# EAGLE library part ENC28J60-* (library ENC28j60)
Microchip 10Mbit Eth. contoller with SPI interface
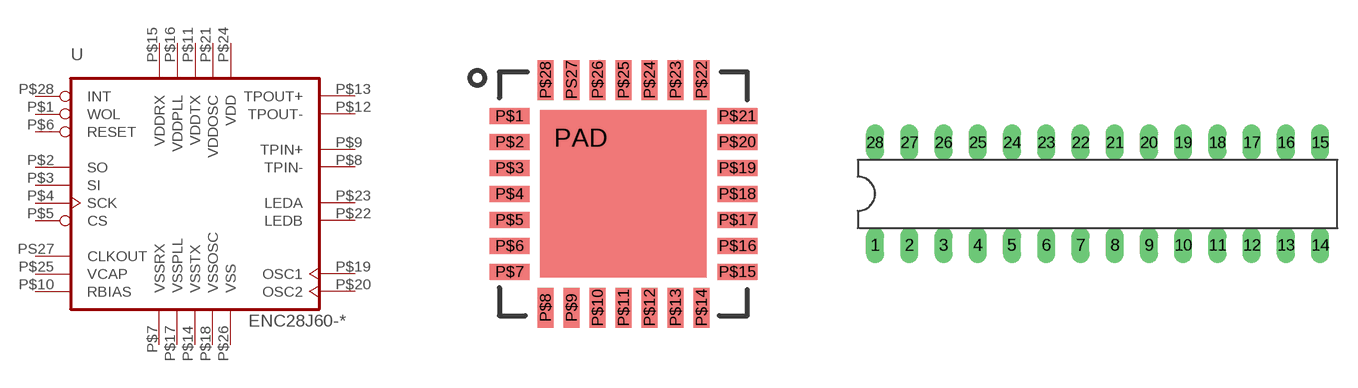
[diagram p0: symbol with the pads of QFN28_ENC; footprints QFN28_ENC, DIL28-3]

Designator prefix U

## ENC28J60-  [QFN28_ENC]
P$1  WOL  out
P$2  SO  out
P$3  SI  in
P$4  SCK  in
P$5  CS  in
P$6  RESET  in
P$7  VSSRX  pwr
P$8  TPIN-  in
P$9  TPIN+  in
P$10  RBIAS  pas
P$11  VDDTX  pwr
P$12  TPOUT-  out
P$13  TPOUT+  out
P$14  VSSTX  pwr
P$15  VDDRX  pwr
P$16  VDDPLL  pwr
P$17  VSSPLL  pwr
P$18  VSSOSC  pwr
P$19  OSC1  in
P$20  OSC2  out
P$21  VDDOSC  pwr
P$22  LEDB  out
P$23  LEDA  out
P$24  VDD  pwr
P$25  VCAP  pwr
P$26  VSS  pwr
P$28  INT  out
PS27  CLKOUT  out

## ENC28J60-DIL  [DIL28-3]
1  VCAP  pwr
2  VSS  pwr
3  CLKOUT  out
4  INT  out
5  WOL  out
6  SO  out
7  SI  in
8  SCK  in
9  CS  in
10  RESET  in
11  VSSRX  pwr
12  TPIN-  in
13  TPIN+  in
14  RBIAS  pas
15  VDDTX  pwr
16  TPOUT-  out
17  TPOUT+  out
18  VSSTX  pwr
19  VDDRX  pwr
20  VDDPLL  pwr
21  VSSPLL  pwr
22  VSSOSC  pwr
23  OSC1  in
24  OSC2  out
25  VDDOSC  pwr
26  LEDB  out
27  LEDA  out
28  VDD  pwr

## ENC28J60-SO  [SO28W]
Pads as for DIL28-3

## ENC28J60-SSOP  [SSOP28]
Pads as for DIL28-3

## Footprint QFN28_ENC (pad centres in mm)
smd 1 x 0.4: P$1 -2.892,1.91; P$2 -2.892,1.26; P$3 -2.892,0.61; P$4 -2.892,-0.04; P$5 -2.892,-0.69; P$6 -2.892,-1.34; P$7 -2.892,-1.99; P$15 2.808,-1.99; P$16 2.808,-1.34; P$17 2.808,-0.69; P$18 2.808,-0.04; P$19 2.808,0.61; P$20 2.808,1.26; P$21 2.808,1.91
smd 0.4 x 1: P$8 -1.992,-2.89; P$9 -1.342,-2.89; P$10 -0.692,-2.89; P$11 -0.042,-2.89; P$12 0.608,-2.89; P$13 1.258,-2.89; P$14 1.908,-2.89; P$22 1.908,2.81; P$23 1.258,2.81; P$24 0.608,2.81; P$25 -0.042,2.81; P$26 -0.692,2.81; P$28 -1.992,2.81; PS27 -1.342,2.81
smd 1.27 x 0.66: PAD -1.109,1.357

## Footprint DIL28-3 (pad centres in mm)
Dual In Line package type P
drill 0.813 long: 1 -16.51,-3.81; 2 -13.97,-3.81; 3 -11.43,-3.81; 4 -8.89,-3.81; 5 -6.35,-3.81; 6 -3.81,-3.81; 7 -1.27,-3.81; 8 1.27,-3.81; 9 3.81,-3.81; 10 6.35,-3.81; 11 8.89,-3.81; 12 11.43,-3.81; 13 13.97,-3.81; 14 16.51,-3.81; 15 16.51,3.81; 16 13.97,3.81; 17 11.43,3.81; 18 8.89,3.81; 19 6.35,3.81; 20 3.81,3.81; 21 1.27,3.81; 22 -1.27,3.81; 23 -3.81,3.81; 24 -6.35,3.81; 25 -8.89,3.81; 26 -11.43,3.81; 27 -13.97,3.81; 28 -16.51,3.81

## Footprint SO28W (pad centres in mm)
SMALL OUTLINE INTEGRATED CIRCUIT wide body 7.5 mm/JEDEC MO-119AB
smd 0.6 x 2.2: 1 -8.255,-4.6; 2 -6.985,-4.6; 3 -5.715,-4.6; 4 -4.445,-4.6; 5 -3.175,-4.6; 6 -1.905,-4.6; 7 -0.635,-4.6; 8 0.635,-4.6; 9 1.905,-4.6; 10 3.175,-4.6; 11 4.445,-4.6; 12 5.715,-4.6; 13 6.985,-4.6; 14 8.255,-4.6; 15 8.255,4.6; 16 6.985,4.6; 17 5.715,4.6; 18 4.445,4.6; 19 3.175,4.6; 20 1.905,4.6; 21 0.635,4.6; 22 -0.635,4.6; 23 -1.905,4.6; 24 -3.175,4.6; 25 -4.445,4.6; 26 -5.715,4.6; 27 -6.985,4.6; 28 -8.255,4.6

## Footprint SSOP28 (pad centres in mm)
Shrink Small Outline Package package type SS
smd 0.4 x 1.5: 1 -4.225,-3.625; 2 -3.575,-3.625; 3 -2.925,-3.625; 4 -2.275,-3.625; 5 -1.625,-3.625; 6 -0.975,-3.625; 7 -0.325,-3.625; 8 0.325,-3.625; 9 0.975,-3.625; 10 1.625,-3.625; 11 2.275,-3.625; 12 2.925,-3.625; 13 3.575,-3.625; 14 4.225,-3.625; 15 4.225,3.625; 16 3.575,3.625; 17 2.925,3.625; 18 2.275,3.625; 19 1.625,3.625; 20 0.975,3.625; 21 0.325,3.625; 22 -0.325,3.625; 23 -0.975,3.625; 24 -1.625,3.625; 25 -2.275,3.625; 26 -2.925,3.625; 27 -3.575,3.625; 28 -4.225,3.625